# Altium footprint library PTA4543-ANGLE.PcbLib: 1 footprints
Each footprint in its own frame and in the unit in brackets; x right, y up, seen from the top. Pads: shape width x height; smd on the part's side, far side on the other; paste and mask are expansions set on the pad; w line width, h text height; cw(c..) or ccw(c..) is an arc to the next point about the centre after c.
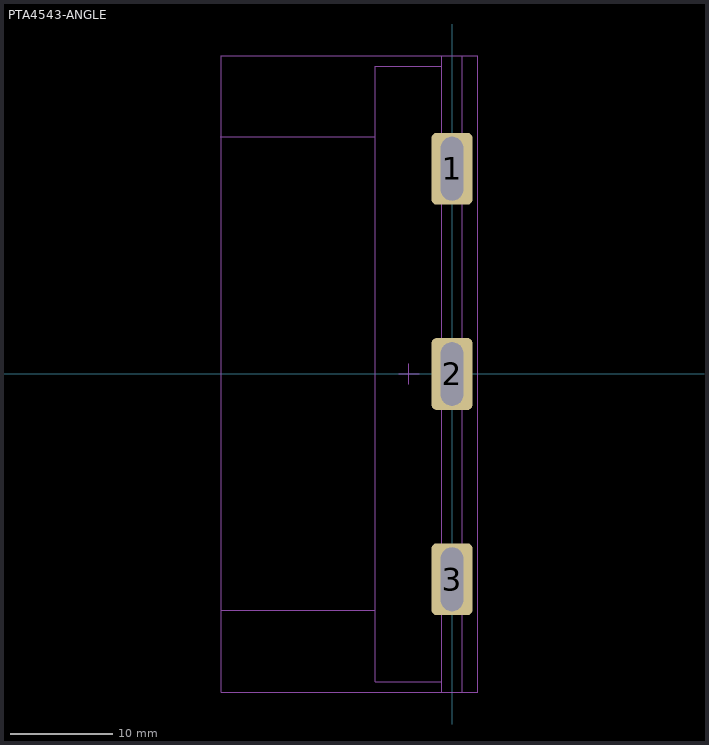
[diagram p0: the footprint, top view; thin cyan lines are the x and y axes]

## PTA4543-ANGLE [mm]
pads (3):
  rrect25% 4x7 hole 2.2 slot 6.2 at 90 deg: 1(0,20) 2(0,0) 3(0,-20)
Mechanical 1:
  lines w0.1: -8,-31 ccw(c-8,-31) -8,-31
Mechanical 7:
  lines w0.1: -3.2,0 -5.2,0 -4.2,0 ; -4.2,0 -4.2,-1 -4.2,1 -4.2,0 ; -22.5,-31 2.5,-31 2.5,31 -22.5,31 -22.5,-31
Mechanical 13:
  lines w0.1: -22.6,23.1 -7.6,23.1 ; -22.5,-20.2 -22.5,-23 -7.5,-23 ; -7.5,-20 -7.5,-15 ; -1,-30 -1,-31 0.8,-31 1,-31 1,31 -1,31 -1,30 ; -1,-30 -1,30 ; -1,-30 -7.5,-30 -7.5,30 -1,30
3D body "TK104_Pulsbegrenser_Eurorack_faderboard.step": height 12.6, standoff -2.9, extent -22.5,-31 2.5,31